# EAGLE library part 5566-08A (library con-Molex)
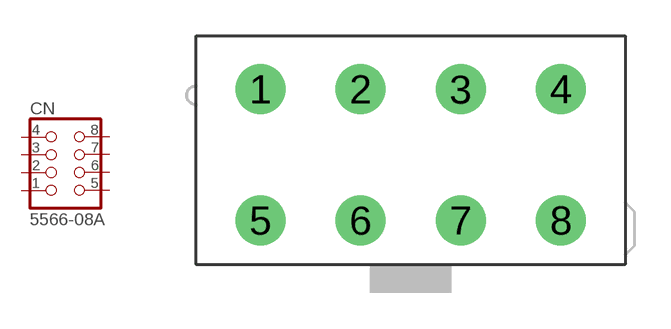
[diagram p14: symbol with the pads of 5566-08A; footprint 5566-08A]

Designator prefix CN

## 5566-08A  [5566-08A]
1  1  pas
2  2  pas
3  3  pas
4  4  pas
5  5  pas
6  6  pas
7  7  pas
8  8  pas

## Footprint 5566-08A (pad centres in mm)
drill 1.4 pad 2: 1 -6.3,2.75; 2 -2.1,2.75; 3 2.1,2.75; 4 6.3,2.75; 5 -6.3,-2.75; 6 -2.1,-2.75; 7 2.1,-2.75; 8 6.3,-2.75